# Altium footprint library MP9447GL-P.PcbLib: 3 footprints
Each footprint in its own frame and in the unit in brackets; x right, y up, seen from the top. Pads: shape width x height; smd on the part's side, far side on the other; paste and mask are expansions set on the pad; w line width, h text height; cw(c..) or ccw(c..) is an arc to the next point about the centre after c.
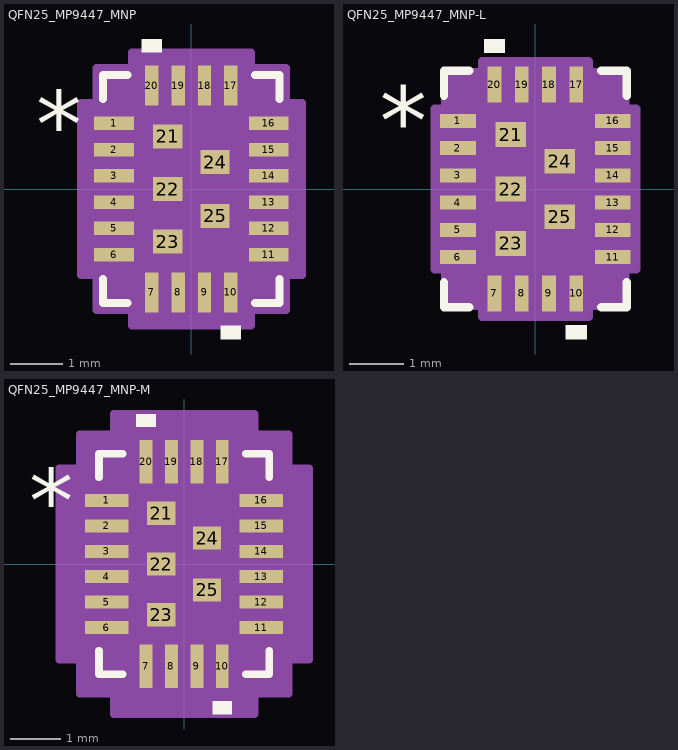
[diagram p0: the footprints below, top view; thin cyan lines are the x and y axes]

## QFN25_MP9447_MNP [mm]
pads (25):
  rect 0.757x0.255 smd paste+0 mask+0: 1(-1.471,1.25) 2(-1.471,0.75) 3(-1.471,0.25) 4(-1.471,-0.25) 5(-1.471,-0.75) 6(-1.471,-1.25) 11(1.471,-1.25) 12(1.471,-0.75) 13(1.471,-0.25) 14(1.471,0.25) 15(1.471,0.75) 16(1.471,1.25)
  rect 0.255x0.757 smd paste+0 mask+0: 7(-0.75,-1.966) 8(-0.25,-1.966) 9(0.25,-1.966) 10(0.75,-1.966) 17(0.75,1.966) 18(0.25,1.966) 19(-0.25,1.966) 20(-0.75,1.966)
  rect 0.559x0.457 smd paste+0 mask+0: 21(-0.45,1) 22(-0.45,0) 23(-0.45,-1) 24(0.45,0.51) 25(0.45,-0.51)
Top Overlay:
  region: 0.941,-2.599 0.56,-2.599 0.56,-2.853 0.941,-2.853
  region: -0.56,2.599 -0.941,2.599 -0.941,2.853 -0.56,2.853
  lines w0.152: -1.676,-1.71 -1.676,-2.172 -1.21,-2.172 ; -1.676,1.71 -1.676,2.172 -1.21,2.172 ; 1.21,-2.172 1.676,-2.172 1.676,-1.71 ; 1.21,2.172 1.676,2.172 1.676,1.71
  text "*" at -2.954,0.615 h1.27
Mechanical 13:
  lines w0.025: -1.549,0.775 -0.279,2.045 ; -1.549,-1.402 -1.549,-1.098 ; -1.549,-1.402 -1.549,-1.098 ; -1.549,-1.402 -1.549,-1.402 ; -1.549,-1.098 -1.549,-1.098 ; -1.549,-0.902 -1.549,-0.598 ; -1.549,-0.902 -1.549,-0.598 ; -1.549,-0.902 -1.549,-0.902 ; -1.549,-0.598 -1.549,-0.598 ; -1.549,-0.402 -1.549,-0.098 ; -1.549,-0.402 -1.549,-0.098 ; -1.549,-0.402 -1.549,-0.402 ; -1.549,-0.098 -1.549,-0.098 ; -1.549,0.098 -1.549,0.402 ; -1.549,0.098 -1.549,0.402 ; -1.549,0.098 -1.549,0.098 ; -1.549,0.402 -1.549,0.402 ; -1.549,0.598 -1.549,0.902 ; -1.549,0.598 -1.549,0.902 ; -1.549,0.598 -1.549,0.598 ; -1.549,0.902 -1.549,0.902 ; -1.549,1.098 -1.549,1.402 ; -1.549,1.098 -1.549,1.402 ; -1.549,1.098 -1.549,1.098 ; -1.549,1.402 -1.549,1.402 ; -0.902,-2.045 -0.598,-2.045 ; -0.902,-2.045 -0.902,-2.045 ; -0.902,-2.045 -0.598,-2.045 ; -0.902,2.045 -0.598,2.045 ; -0.902,2.045 -0.598,2.045 ; -0.902,2.045 -0.902,2.045 ; -0.598,-2.045 -0.598,-2.045 ; -0.598,2.045 -0.598,2.045 ; -0.402,-2.045 -0.098,-2.045 ; -0.402,-2.045 -0.402,-2.045 ; -0.402,-2.045 -0.098,-2.045 ; -0.402,2.045 -0.098,2.045 ; -0.402,2.045 -0.098,2.045 ; -0.402,2.045 -0.402,2.045 ; -0.098,-2.045 -0.098,-2.045 ; -0.098,2.045 -0.098,2.045 ; 0.098,-2.045 0.402,-2.045 ; 0.098,-2.045 0.098,-2.045 ; 0.098,-2.045 0.402,-2.045 ; 0.098,2.045 0.402,2.045 ; 0.098,2.045 0.402,2.045 ; 0.098,2.045 0.098,2.045 ; 0.402,-2.045 0.402,-2.045 ; 0.402,2.045 0.402,2.045 ; 0.598,-2.045 0.902,-2.045 ; 0.598,-2.045 0.598,-2.045 ; 0.598,-2.045 0.902,-2.045 ; 0.598,2.045 0.902,2.045 ; 0.598,2.045 0.902,2.045 ; 0.598,2.045 0.598,2.045 ; 0.902,-2.045 0.902,-2.045 ; 0.902,2.045 0.902,2.045 ; 1.549,-1.402 1.549,-1.098 ; 1.549,-1.402 1.549,-1.402 ; 1.549,-1.402 1.549,-1.098 ; 1.549,-1.098 1.549,-1.098 ; 1.549,-0.902 1.549,-0.598 ; 1.549,-0.902 1.549,-0.902 ; 1.549,-0.902 1.549,-0.598 ; 1.549,-0.598 1.549,-0.598 ; 1.549,-0.402 1.549,-0.098 ; 1.549,-0.402 1.549,-0.402 ; 1.549,-0.402 1.549,-0.098 ; 1.549,-0.098 1.549,-0.098 ; 1.549,0.098 1.549,0.402 ; 1.549,0.098 1.549,0.098 ; 1.549,0.098 1.549,0.402 ; 1.549,0.402 1.549,0.402 ; 1.549,0.598 1.549,0.902 ; 1.549,0.598 1.549,0.598 ; 1.549,0.598 1.549,0.902 ; 1.549,0.902 1.549,0.902 ; 1.549,1.098 1.549,1.402 ; 1.549,1.098 1.549,1.098 ; 1.549,1.098 1.549,1.402 ; 1.549,1.402 1.549,1.402 ; -1.549,-2.045 1.549,-2.045 1.549,2.045 -1.549,2.045 -1.549,-2.045
  text "*" at -0.622,0.615 h1.27
Mechanical 15:
  region: -1.131,-2.299 -1.803,-2.299 -1.803,-1.631 -2.103,-1.631 -2.103,1.631 -1.803,1.631 -1.803,2.299 -1.131,2.299 -1.131,2.599 1.131,2.599 1.131,2.299 1.803,2.299 1.803,1.631 2.103,1.631 2.103,-1.631 1.803,-1.631 1.803,-2.299 1.131,-2.299 1.131,-2.599 -1.131,-2.599
  lines w0.152: -2.103,-1.631 -1.803,-1.631 -1.803,-2.299 -1.131,-2.299 -1.131,-2.599 1.131,-2.599 1.131,-2.299 1.803,-2.299 1.803,-1.631 2.103,-1.631 2.103,1.631 1.803,1.631 1.803,2.299 1.131,2.299 1.131,2.599 -1.131,2.599 -1.131,2.299 -1.803,2.299 -1.803,1.631 -2.103,1.631 -2.103,-1.631
3D body "QFN25_MP9447_MNP.step": height 0.99, standoff 0, extent -1.549,-2.045 1.549,2.045

## QFN25_MP9447_MNP-L [mm]
pads (25):
  rect 0.657x0.255 smd paste+0 mask+0: 1(-1.421,1.25) 2(-1.421,0.75) 3(-1.421,0.25) 4(-1.421,-0.25) 5(-1.421,-0.75) 6(-1.421,-1.25) 11(1.421,-1.25) 12(1.421,-0.75) 13(1.421,-0.25) 14(1.421,0.25) 15(1.421,0.75) 16(1.421,1.25)
  rect 0.255x0.657 smd paste+0 mask+0: 7(-0.75,-1.916) 8(-0.25,-1.916) 9(0.25,-1.916) 10(0.75,-1.916) 17(0.75,1.916) 18(0.25,1.916) 19(-0.25,1.916) 20(-0.75,1.916)
  rect 0.559x0.457 smd paste+0 mask+0: 21(-0.45,1) 22(-0.45,0) 23(-0.45,-1) 24(0.45,0.51) 25(0.45,-0.51)
Top Overlay:
  region: 0.941,-2.499 0.56,-2.499 0.56,-2.753 0.941,-2.753
  region: -0.56,2.499 -0.941,2.499 -0.941,2.753 -0.56,2.753
  lines w0.152: -1.676,-1.71 -1.676,-2.172 -1.21,-2.172 ; -1.676,1.71 -1.676,2.172 -1.21,2.172 ; 1.21,-2.172 1.676,-2.172 1.676,-1.71 ; 1.21,2.172 1.676,2.172 1.676,1.71
  text "*" at -2.854,0.615 h1.27
Mechanical 13:
  lines w0.025: -1.549,0.775 -0.279,2.045 ; -1.549,-1.402 -1.549,-1.098 ; -1.549,-1.402 -1.549,-1.098 ; -1.549,-1.402 -1.549,-1.402 ; -1.549,-1.098 -1.549,-1.098 ; -1.549,-0.902 -1.549,-0.598 ; -1.549,-0.902 -1.549,-0.598 ; -1.549,-0.902 -1.549,-0.902 ; -1.549,-0.598 -1.549,-0.598 ; -1.549,-0.402 -1.549,-0.098 ; -1.549,-0.402 -1.549,-0.098 ; -1.549,-0.402 -1.549,-0.402 ; -1.549,-0.098 -1.549,-0.098 ; -1.549,0.098 -1.549,0.402 ; -1.549,0.098 -1.549,0.402 ; -1.549,0.098 -1.549,0.098 ; -1.549,0.402 -1.549,0.402 ; -1.549,0.598 -1.549,0.902 ; -1.549,0.598 -1.549,0.902 ; -1.549,0.598 -1.549,0.598 ; -1.549,0.902 -1.549,0.902 ; -1.549,1.098 -1.549,1.402 ; -1.549,1.098 -1.549,1.402 ; -1.549,1.098 -1.549,1.098 ; -1.549,1.402 -1.549,1.402 ; -0.902,-2.045 -0.598,-2.045 ; -0.902,-2.045 -0.902,-2.045 ; -0.902,-2.045 -0.598,-2.045 ; -0.902,2.045 -0.598,2.045 ; -0.902,2.045 -0.598,2.045 ; -0.902,2.045 -0.902,2.045 ; -0.598,-2.045 -0.598,-2.045 ; -0.598,2.045 -0.598,2.045 ; -0.402,-2.045 -0.098,-2.045 ; -0.402,-2.045 -0.402,-2.045 ; -0.402,-2.045 -0.098,-2.045 ; -0.402,2.045 -0.098,2.045 ; -0.402,2.045 -0.098,2.045 ; -0.402,2.045 -0.402,2.045 ; -0.098,-2.045 -0.098,-2.045 ; -0.098,2.045 -0.098,2.045 ; 0.098,-2.045 0.402,-2.045 ; 0.098,-2.045 0.098,-2.045 ; 0.098,-2.045 0.402,-2.045 ; 0.098,2.045 0.402,2.045 ; 0.098,2.045 0.402,2.045 ; 0.098,2.045 0.098,2.045 ; 0.402,-2.045 0.402,-2.045 ; 0.402,2.045 0.402,2.045 ; 0.598,-2.045 0.902,-2.045 ; 0.598,-2.045 0.598,-2.045 ; 0.598,-2.045 0.902,-2.045 ; 0.598,2.045 0.902,2.045 ; 0.598,2.045 0.902,2.045 ; 0.598,2.045 0.598,2.045 ; 0.902,-2.045 0.902,-2.045 ; 0.902,2.045 0.902,2.045 ; 1.549,-1.402 1.549,-1.098 ; 1.549,-1.402 1.549,-1.402 ; 1.549,-1.402 1.549,-1.098 ; 1.549,-1.098 1.549,-1.098 ; 1.549,-0.902 1.549,-0.598 ; 1.549,-0.902 1.549,-0.902 ; 1.549,-0.902 1.549,-0.598 ; 1.549,-0.598 1.549,-0.598 ; 1.549,-0.402 1.549,-0.098 ; 1.549,-0.402 1.549,-0.402 ; 1.549,-0.402 1.549,-0.098 ; 1.549,-0.098 1.549,-0.098 ; 1.549,0.098 1.549,0.402 ; 1.549,0.098 1.549,0.098 ; 1.549,0.098 1.549,0.402 ; 1.549,0.402 1.549,0.402 ; 1.549,0.598 1.549,0.902 ; 1.549,0.598 1.549,0.598 ; 1.549,0.598 1.549,0.902 ; 1.549,0.902 1.549,0.902 ; 1.549,1.098 1.549,1.402 ; 1.549,1.098 1.549,1.098 ; 1.549,1.098 1.549,1.402 ; 1.549,1.402 1.549,1.402 ; -1.549,-2.045 1.549,-2.045 1.549,2.045 -1.549,2.045 -1.549,-2.045
  text "*" at -0.622,0.615 h1.27
Mechanical 15:
  region: -0.979,-2.146 -1.651,-2.146 -1.651,-1.479 -1.851,-1.479 -1.851,1.479 -1.651,1.479 -1.651,2.146 -0.979,2.146 -0.979,2.346 0.979,2.346 0.979,2.146 1.651,2.146 1.651,1.479 1.851,1.479 1.851,-1.479 1.651,-1.479 1.651,-2.146 0.979,-2.146 0.979,-2.346 -0.979,-2.346
  lines w0.152: -1.851,-1.479 -1.651,-1.479 -1.651,-2.146 -0.979,-2.146 -0.979,-2.346 0.979,-2.346 0.979,-2.146 1.651,-2.146 1.651,-1.479 1.851,-1.479 1.851,1.479 1.651,1.479 1.651,2.146 0.979,2.146 0.979,2.346 -0.979,2.346 -0.979,2.146 -1.651,2.146 -1.651,1.479 -1.851,1.479 -1.851,-1.479
3D body "QFN25_MP9447_MNP.step": height 0.99, standoff 0, extent -1.549,-2.045 1.549,2.045

## QFN25_MP9447_MNP-M [mm]
pads (25):
  rect 0.857x0.255 smd paste+0 mask+0: 1(-1.521,1.25) 2(-1.521,0.75) 3(-1.521,0.25) 4(-1.521,-0.25) 5(-1.521,-0.75) 6(-1.521,-1.25) 11(1.521,-1.25) 12(1.521,-0.75) 13(1.521,-0.25) 14(1.521,0.25) 15(1.521,0.75) 16(1.521,1.25)
  rect 0.255x0.857 smd paste+0 mask+0: 7(-0.75,-2.016) 8(-0.25,-2.016) 9(0.25,-2.016) 10(0.75,-2.016) 17(0.75,2.016) 18(0.25,2.016) 19(-0.25,2.016) 20(-0.75,2.016)
  rect 0.559x0.457 smd paste+0 mask+0: 21(-0.45,1) 22(-0.45,0) 23(-0.45,-1) 24(0.45,0.51) 25(0.45,-0.51)
Top Overlay:
  region: 0.941,-2.699 0.56,-2.699 0.56,-2.953 0.941,-2.953
  region: -0.56,2.699 -0.941,2.699 -0.941,2.953 -0.56,2.953
  lines w0.152: -1.676,-1.71 -1.676,-2.172 -1.21,-2.172 ; -1.676,1.71 -1.676,2.172 -1.21,2.172 ; 1.21,-2.172 1.676,-2.172 1.676,-1.71 ; 1.21,2.172 1.676,2.172 1.676,1.71
  text "*" at -3.054,0.615 h1.27
Mechanical 13:
  lines w0.025: -1.549,0.775 -0.279,2.045 ; -1.549,-1.402 -1.549,-1.098 ; -1.549,-1.402 -1.549,-1.098 ; -1.549,-1.402 -1.549,-1.402 ; -1.549,-1.098 -1.549,-1.098 ; -1.549,-0.902 -1.549,-0.598 ; -1.549,-0.902 -1.549,-0.598 ; -1.549,-0.902 -1.549,-0.902 ; -1.549,-0.598 -1.549,-0.598 ; -1.549,-0.402 -1.549,-0.098 ; -1.549,-0.402 -1.549,-0.098 ; -1.549,-0.402 -1.549,-0.402 ; -1.549,-0.098 -1.549,-0.098 ; -1.549,0.098 -1.549,0.402 ; -1.549,0.098 -1.549,0.402 ; -1.549,0.098 -1.549,0.098 ; -1.549,0.402 -1.549,0.402 ; -1.549,0.598 -1.549,0.902 ; -1.549,0.598 -1.549,0.902 ; -1.549,0.598 -1.549,0.598 ; -1.549,0.902 -1.549,0.902 ; -1.549,1.098 -1.549,1.402 ; -1.549,1.098 -1.549,1.402 ; -1.549,1.098 -1.549,1.098 ; -1.549,1.402 -1.549,1.402 ; -0.902,-2.045 -0.598,-2.045 ; -0.902,-2.045 -0.902,-2.045 ; -0.902,-2.045 -0.598,-2.045 ; -0.902,2.045 -0.598,2.045 ; -0.902,2.045 -0.598,2.045 ; -0.902,2.045 -0.902,2.045 ; -0.598,-2.045 -0.598,-2.045 ; -0.598,2.045 -0.598,2.045 ; -0.402,-2.045 -0.098,-2.045 ; -0.402,-2.045 -0.402,-2.045 ; -0.402,-2.045 -0.098,-2.045 ; -0.402,2.045 -0.098,2.045 ; -0.402,2.045 -0.098,2.045 ; -0.402,2.045 -0.402,2.045 ; -0.098,-2.045 -0.098,-2.045 ; -0.098,2.045 -0.098,2.045 ; 0.098,-2.045 0.402,-2.045 ; 0.098,-2.045 0.098,-2.045 ; 0.098,-2.045 0.402,-2.045 ; 0.098,2.045 0.402,2.045 ; 0.098,2.045 0.402,2.045 ; 0.098,2.045 0.098,2.045 ; 0.402,-2.045 0.402,-2.045 ; 0.402,2.045 0.402,2.045 ; 0.598,-2.045 0.902,-2.045 ; 0.598,-2.045 0.598,-2.045 ; 0.598,-2.045 0.902,-2.045 ; 0.598,2.045 0.902,2.045 ; 0.598,2.045 0.902,2.045 ; 0.598,2.045 0.598,2.045 ; 0.902,-2.045 0.902,-2.045 ; 0.902,2.045 0.902,2.045 ; 1.549,-1.402 1.549,-1.098 ; 1.549,-1.402 1.549,-1.402 ; 1.549,-1.402 1.549,-1.098 ; 1.549,-1.098 1.549,-1.098 ; 1.549,-0.902 1.549,-0.598 ; 1.549,-0.902 1.549,-0.902 ; 1.549,-0.902 1.549,-0.598 ; 1.549,-0.598 1.549,-0.598 ; 1.549,-0.402 1.549,-0.098 ; 1.549,-0.402 1.549,-0.402 ; 1.549,-0.402 1.549,-0.098 ; 1.549,-0.098 1.549,-0.098 ; 1.549,0.098 1.549,0.402 ; 1.549,0.098 1.549,0.098 ; 1.549,0.098 1.549,0.402 ; 1.549,0.402 1.549,0.402 ; 1.549,0.598 1.549,0.902 ; 1.549,0.598 1.549,0.598 ; 1.549,0.598 1.549,0.902 ; 1.549,0.902 1.549,0.902 ; 1.549,1.098 1.549,1.402 ; 1.549,1.098 1.549,1.098 ; 1.549,1.098 1.549,1.402 ; 1.549,1.402 1.549,1.402 ; -1.549,-2.045 1.549,-2.045 1.549,2.045 -1.549,2.045 -1.549,-2.045
  text "*" at -0.622,0.615 h1.27
Mechanical 15:
  region: -1.385,-2.553 -2.057,-2.553 -2.057,-1.885 -2.457,-1.885 -2.457,1.885 -2.057,1.885 -2.057,2.553 -1.385,2.553 -1.385,2.953 1.385,2.953 1.385,2.553 2.057,2.553 2.057,1.885 2.457,1.885 2.457,-1.885 2.057,-1.885 2.057,-2.553 1.385,-2.553 1.385,-2.953 -1.385,-2.953
  lines w0.152: -2.457,-1.885 -2.057,-1.885 -2.057,-2.553 -1.385,-2.553 -1.385,-2.953 1.385,-2.953 1.385,-2.553 2.057,-2.553 2.057,-1.885 2.457,-1.885 2.457,1.885 2.057,1.885 2.057,2.553 1.385,2.553 1.385,2.953 -1.385,2.953 -1.385,2.553 -2.057,2.553 -2.057,1.885 -2.457,1.885 -2.457,-1.885
3D body "QFN25_MP9447_MNP.step": height 0.99, standoff 0, extent -1.549,-2.045 1.549,2.045